# Altium footprint library SumWkshop.PcbLib: 1 footprints
Each footprint in its own frame and in the unit in brackets; x right, y up, seen from the top. Pads: shape width x height; smd on the part's side, far side on the other; paste and mask are expansions set on the pad; w line width, h text height; cw(c..) or ccw(c..) is an arc to the next point about the centre after c.
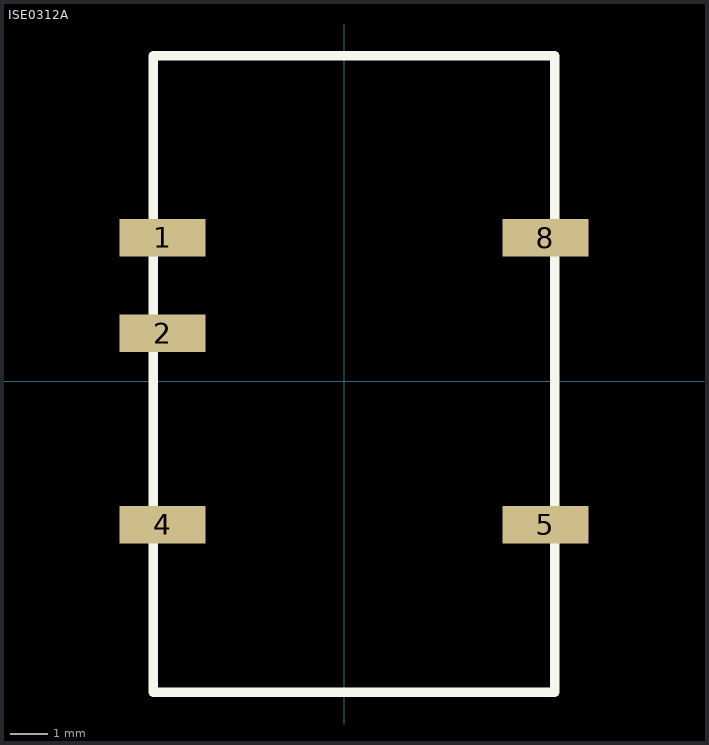
[diagram p0: the footprint, top view; thin cyan lines are the x and y axes]

## ISE0312A [mil]
pads (5):
  rect 90x39 smd: 1(-190,150) 2(-190,50) 4(-190,-150) 5(210,-150) 8(210,150)
Top Overlay:
  lines w10: -170,340 -72.5,340 122.5,340 220,340 220,-325 -200,-325 -200,340 -135,340
3D body "ISE.STEP": height 285.01, standoff -0.43, extent -210.47,-250 230.47,250